# Altium footprint library IPC-7355 QFP_Sq_65P_Side_L.PcbLib: 7 footprints
Each footprint in its own frame and in the unit in brackets; x right, y up, seen from the top. Pads: shape width x height; smd on the part's side, far side on the other; paste and mask are expansions set on the pad; w line width, h text height; cw(c..) or ccw(c..) is an arc to the next point about the centre after c.
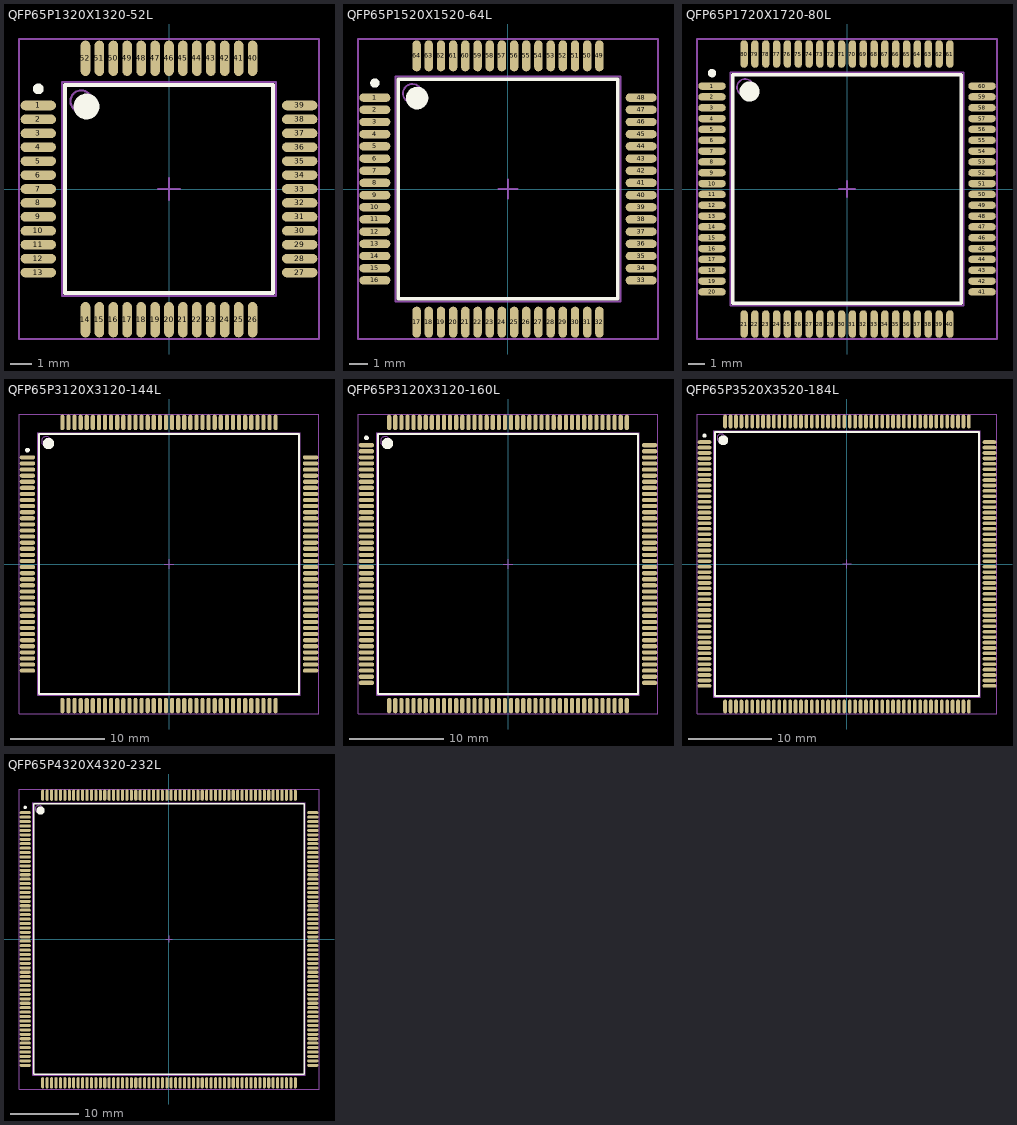
[diagram p0: the footprints below, top view; thin cyan lines are the x and y axes]

## QFP65P1320X1320-52L [mm] "QFP, 52-Leads, Body 10 x 10 mm, Pitch 0.65mm, IPC High Density"
height 2.45
pads (52):
  oval 1.65x0.45 smd: 1(-6.1,3.9) 2(-6.1,3.25) 3(-6.1,2.6) 4(-6.1,1.95) 5(-6.1,1.3) 6(-6.1,0.65) 7(-6.1,0) 8(-6.1,-0.65) 9(-6.1,-1.3) 10(-6.1,-1.95) 11(-6.1,-2.6) 12(-6.1,-3.25) 13(-6.1,-3.9) 27(6.1,-3.9) 28(6.1,-3.25) 29(6.1,-2.6) 30(6.1,-1.95) 31(6.1,-1.3) 32(6.1,-0.65) 33(6.1,0) 34(6.1,0.65) 35(6.1,1.3) 36(6.1,1.95) 37(6.1,2.6) 38(6.1,3.25) 39(6.1,3.9)
  oval 0.45x1.65 smd: 14(-3.9,-6.1) 15(-3.25,-6.1) 16(-2.6,-6.1) 17(-1.95,-6.1) 18(-1.3,-6.1) 19(-0.65,-6.1) 20(0,-6.1) 21(0.65,-6.1) 22(1.3,-6.1) 23(1.95,-6.1) 24(2.6,-6.1) 25(3.25,-6.1) 26(3.9,-6.1) 40(3.9,6.1) 41(3.25,6.1) 42(2.6,6.1) 43(1.95,6.1) 44(1.3,6.1) 45(0.65,6.1) 46(0,6.1) 47(-0.65,6.1) 48(-1.3,6.1) 49(-1.95,6.1) 50(-2.6,6.1) 51(-3.25,6.1) 52(-3.9,6.1)
Top Overlay:
  circle w0.6: c-3.85,3.85 r0.3
  circle w0.25: c-6.1,4.675 r0.125
  lines w0.2: -4.85,-4.85 4.85,-4.85 4.85,4.85 -4.85,4.85 -4.85,-4.85
Mechanical 13:
  circle w0.1: c-4.1,4.1 r0.5
  lines w0.1: -5,-5 5,-5 5,5 -5,5 -5,-5
Mechanical 15:
  lines w0.1: -0.5,0 0.5,0 ; 0,-0.5 0,0.5 ; -7,-7 7,-7 7,7 -7,7 -7,-7
3D body: height 2.45, standoff 0, extent -5,-5 5,5

## QFP65P1520X1520-64L [mm] "QFP, 64-Leads, Body 12 x 12 mm, Pitch 0.65mm, IPC High Density"
height 2.45
pads (64):
  oval 1.65x0.45 smd: 1(-7.1,4.875) 2(-7.1,4.225) 3(-7.1,3.575) 4(-7.1,2.925) 5(-7.1,2.275) 6(-7.1,1.625) 7(-7.1,0.975) 8(-7.1,0.325) 9(-7.1,-0.325) 10(-7.1,-0.975) 11(-7.1,-1.625) 12(-7.1,-2.275) 13(-7.1,-2.925) 14(-7.1,-3.575) 15(-7.1,-4.225) 16(-7.1,-4.875) 33(7.1,-4.875) 34(7.1,-4.225) 35(7.1,-3.575) 36(7.1,-2.925) 37(7.1,-2.275) 38(7.1,-1.625) 39(7.1,-0.975) 40(7.1,-0.325) 41(7.1,0.325) 42(7.1,0.975) 43(7.1,1.625) 44(7.1,2.275) 45(7.1,2.925) 46(7.1,3.575) 47(7.1,4.225) 48(7.1,4.875)
  oval 0.45x1.65 smd: 17(-4.875,-7.1) 18(-4.225,-7.1) 19(-3.575,-7.1) 20(-2.925,-7.1) 21(-2.275,-7.1) 22(-1.625,-7.1) 23(-0.975,-7.1) 24(-0.325,-7.1) 25(0.325,-7.1) 26(0.975,-7.1) 27(1.625,-7.1) 28(2.275,-7.1) 29(2.925,-7.1) 30(3.575,-7.1) 31(4.225,-7.1) 32(4.875,-7.1) 49(4.875,7.1) 50(4.225,7.1) 51(3.575,7.1) 52(2.925,7.1) 53(2.275,7.1) 54(1.625,7.1) 55(0.975,7.1) 56(0.325,7.1) 57(-0.325,7.1) 58(-0.975,7.1) 59(-1.625,7.1) 60(-2.275,7.1) 61(-2.925,7.1) 62(-3.575,7.1) 63(-4.225,7.1) 64(-4.875,7.1)
Top Overlay:
  circle w0.6: c-4.85,4.85 r0.3
  circle w0.25: c-7.1,5.65 r0.125
  lines w0.2: -5.85,-5.85 5.85,-5.85 5.85,5.85 -5.85,5.85 -5.85,-5.85
Mechanical 13:
  circle w0.1: c-5.1,5.1 r0.5
  lines w0.1: -6,-6 6,-6 6,6 -6,6 -6,-6
Mechanical 15:
  lines w0.1: -0.5,0 0.5,0 ; 0,-0.5 0,0.5 ; -8,-8 8,-8 8,8 -8,8 -8,-8
3D body: height 2.45, standoff 0, extent -6,-6 6,6

## QFP65P1720X1720-80L [mm] "QFP, 80-Leads, Body 14 x 14 mm, Pitch 0.65mm, IPC High Density"
height 2.45
pads (80):
  oval 1.65x0.45 smd: 1(-8.1,6.175) 2(-8.1,5.525) 3(-8.1,4.875) 4(-8.1,4.225) 5(-8.1,3.575) 6(-8.1,2.925) 7(-8.1,2.275) 8(-8.1,1.625) 9(-8.1,0.975) 10(-8.1,0.325) 11(-8.1,-0.325) 12(-8.1,-0.975) 13(-8.1,-1.625) 14(-8.1,-2.275) 15(-8.1,-2.925) 16(-8.1,-3.575) 17(-8.1,-4.225) 18(-8.1,-4.875) 19(-8.1,-5.525) 20(-8.1,-6.175) 41(8.1,-6.175) 42(8.1,-5.525) 43(8.1,-4.875) 44(8.1,-4.225) 45(8.1,-3.575) 46(8.1,-2.925) 47(8.1,-2.275) 48(8.1,-1.625) 49(8.1,-0.975) 50(8.1,-0.325) 51(8.1,0.325) 52(8.1,0.975) 53(8.1,1.625) 54(8.1,2.275) 55(8.1,2.925) 56(8.1,3.575) 57(8.1,4.225) 58(8.1,4.875) 59(8.1,5.525) 60(8.1,6.175)
  oval 0.45x1.65 smd: 21(-6.175,-8.1) 22(-5.525,-8.1) 23(-4.875,-8.1) 24(-4.225,-8.1) 25(-3.575,-8.1) 26(-2.925,-8.1) 27(-2.275,-8.1) 28(-1.625,-8.1) 29(-0.975,-8.1) 30(-0.325,-8.1) 31(0.325,-8.1) 32(0.975,-8.1) 33(1.625,-8.1) 34(2.275,-8.1) 35(2.925,-8.1) 36(3.575,-8.1) 37(4.225,-8.1) 38(4.875,-8.1) 39(5.525,-8.1) 40(6.175,-8.1) 61(6.175,8.1) 62(5.525,8.1) 63(4.875,8.1) 64(4.225,8.1) 65(3.575,8.1) 66(2.925,8.1) 67(2.275,8.1) 68(1.625,8.1) 69(0.975,8.1) 70(0.325,8.1) 71(-0.325,8.1) 72(-0.975,8.1) 73(-1.625,8.1) 74(-2.275,8.1) 75(-2.925,8.1) 76(-3.575,8.1) 77(-4.225,8.1) 78(-4.875,8.1) 79(-5.525,8.1) 80(-6.175,8.1)
Top Overlay:
  circle w0.6: c-5.85,5.85 r0.3
  circle w0.25: c-8.1,6.95 r0.125
  lines w0.2: -6.85,-6.85 6.85,-6.85 6.85,6.85 -6.85,6.85 -6.85,-6.85
Mechanical 13:
  circle w0.1: c-6.1,6.1 r0.5
  lines w0.1: -7,-7 7,-7 7,7 -7,7 -7,-7
Mechanical 15:
  lines w0.1: -0.5,0 0.5,0 ; 0,-0.5 0,0.5 ; -9,-9 9,-9 9,9 -9,9 -9,-9
3D body: height 2.45, standoff 0, extent -7,-7 7,7

## QFP65P3120X3120-144L [mm] "QFP, 144-Leads, Body 28 x 28 mm, Pitch 0.65mm, IPC High Density"
height 3.75
pads (144):
  oval 1.65x0.45 smd: 1(-15.1,11.375) 2(-15.1,10.725) 3(-15.1,10.075) 4(-15.1,9.425) 5(-15.1,8.775) 6(-15.1,8.125) 7(-15.1,7.475) 8(-15.1,6.825) 9(-15.1,6.175) 10(-15.1,5.525) 11(-15.1,4.875) 12(-15.1,4.225) 13(-15.1,3.575) 14(-15.1,2.925) 15(-15.1,2.275) 16(-15.1,1.625) 17(-15.1,0.975) 18(-15.1,0.325) 19(-15.1,-0.325) 20(-15.1,-0.975) 21(-15.1,-1.625) 22(-15.1,-2.275) 23(-15.1,-2.925) 24(-15.1,-3.575) 25(-15.1,-4.225) 26(-15.1,-4.875) 27(-15.1,-5.525) 28(-15.1,-6.175) 29(-15.1,-6.825) 30(-15.1,-7.475) 31(-15.1,-8.125) 32(-15.1,-8.775) 33(-15.1,-9.425) 34(-15.1,-10.075) 35(-15.1,-10.725) 36(-15.1,-11.375) 73(15.1,-11.375) 74(15.1,-10.725) 75(15.1,-10.075) 76(15.1,-9.425) 77(15.1,-8.775) 78(15.1,-8.125) 79(15.1,-7.475) 80(15.1,-6.825) 81(15.1,-6.175) 82(15.1,-5.525) 83(15.1,-4.875) 84(15.1,-4.225) 85(15.1,-3.575) 86(15.1,-2.925) 87(15.1,-2.275) 88(15.1,-1.625) 89(15.1,-0.975) 90(15.1,-0.325) 91(15.1,0.325) 92(15.1,0.975) 93(15.1,1.625) 94(15.1,2.275) 95(15.1,2.925) 96(15.1,3.575) 97(15.1,4.225) 98(15.1,4.875) 99(15.1,5.525) 100(15.1,6.175) 101(15.1,6.825) 102(15.1,7.475) 103(15.1,8.125) 104(15.1,8.775) 105(15.1,9.425) 106(15.1,10.075) 107(15.1,10.725) 108(15.1,11.375)
  oval 0.45x1.65 smd: 37(-11.375,-15.1) 38(-10.725,-15.1) 39(-10.075,-15.1) 40(-9.425,-15.1) 41(-8.775,-15.1) 42(-8.125,-15.1) 43(-7.475,-15.1) 44(-6.825,-15.1) 45(-6.175,-15.1) 46(-5.525,-15.1) 47(-4.875,-15.1) 48(-4.225,-15.1) 49(-3.575,-15.1) 50(-2.925,-15.1) 51(-2.275,-15.1) 52(-1.625,-15.1) 53(-0.975,-15.1) 54(-0.325,-15.1) 55(0.325,-15.1) 56(0.975,-15.1) 57(1.625,-15.1) 58(2.275,-15.1) 59(2.925,-15.1) 60(3.575,-15.1) 61(4.225,-15.1) 62(4.875,-15.1) 63(5.525,-15.1) 64(6.175,-15.1) 65(6.825,-15.1) 66(7.475,-15.1) 67(8.125,-15.1) 68(8.775,-15.1) 69(9.425,-15.1) 70(10.075,-15.1) 71(10.725,-15.1) 72(11.375,-15.1) 109(11.375,15.1) 110(10.725,15.1) 111(10.075,15.1) 112(9.425,15.1) 113(8.775,15.1) 114(8.125,15.1) 115(7.475,15.1) 116(6.825,15.1) 117(6.175,15.1) 118(5.525,15.1) 119(4.875,15.1) 120(4.225,15.1) 121(3.575,15.1) 122(2.925,15.1) 123(2.275,15.1) 124(1.625,15.1) 125(0.975,15.1) 126(0.325,15.1) 127(-0.325,15.1) 128(-0.975,15.1) 129(-1.625,15.1) 130(-2.275,15.1) 131(-2.925,15.1) 132(-3.575,15.1) 133(-4.225,15.1) 134(-4.875,15.1) 135(-5.525,15.1) 136(-6.175,15.1) 137(-6.825,15.1) 138(-7.475,15.1) 139(-8.125,15.1) 140(-8.775,15.1) 141(-9.425,15.1) 142(-10.075,15.1) 143(-10.725,15.1) 144(-11.375,15.1)
Top Overlay:
  circle w0.6: c-12.85,12.85 r0.3
  circle w0.25: c-15.1,12.15 r0.125
  lines w0.2: -13.85,-13.85 13.85,-13.85 13.85,13.85 -13.85,13.85 -13.85,-13.85
Mechanical 13:
  circle w0.1: c-13.1,13.1 r0.5
  lines w0.1: -14,-14 14,-14 14,14 -14,14 -14,-14
Mechanical 15:
  lines w0.1: -0.5,0 0.5,0 ; 0,-0.5 0,0.5 ; -16,-16 16,-16 16,16 -16,16 -16,-16
3D body: height 3.75, standoff 0, extent -14,-14 14,14

## QFP65P3120X3120-160L [mm] "QFP, 160-Leads, Body 28 x 28 mm, Pitch 0.65mm, IPC High Density"
height 3.75
pads (160):
  oval 1.65x0.45 smd: 1(-15.1,12.675) 2(-15.1,12.025) 3(-15.1,11.375) 4(-15.1,10.725) 5(-15.1,10.075) 6(-15.1,9.425) 7(-15.1,8.775) 8(-15.1,8.125) 9(-15.1,7.475) 10(-15.1,6.825) 11(-15.1,6.175) 12(-15.1,5.525) 13(-15.1,4.875) 14(-15.1,4.225) 15(-15.1,3.575) 16(-15.1,2.925) 17(-15.1,2.275) 18(-15.1,1.625) 19(-15.1,0.975) 20(-15.1,0.325) 21(-15.1,-0.325) 22(-15.1,-0.975) 23(-15.1,-1.625) 24(-15.1,-2.275) 25(-15.1,-2.925) 26(-15.1,-3.575) 27(-15.1,-4.225) 28(-15.1,-4.875) 29(-15.1,-5.525) 30(-15.1,-6.175) 31(-15.1,-6.825) 32(-15.1,-7.475) 33(-15.1,-8.125) 34(-15.1,-8.775) 35(-15.1,-9.425) 36(-15.1,-10.075) 37(-15.1,-10.725) 38(-15.1,-11.375) 39(-15.1,-12.025) 40(-15.1,-12.675) 81(15.1,-12.675) 82(15.1,-12.025) 83(15.1,-11.375) 84(15.1,-10.725) 85(15.1,-10.075) 86(15.1,-9.425) 87(15.1,-8.775) 88(15.1,-8.125) 89(15.1,-7.475) 90(15.1,-6.825) 91(15.1,-6.175) 92(15.1,-5.525) 93(15.1,-4.875) 94(15.1,-4.225) 95(15.1,-3.575) 96(15.1,-2.925) 97(15.1,-2.275) 98(15.1,-1.625) 99(15.1,-0.975) 100(15.1,-0.325) 101(15.1,0.325) 102(15.1,0.975) 103(15.1,1.625) 104(15.1,2.275) 105(15.1,2.925) 106(15.1,3.575) 107(15.1,4.225) 108(15.1,4.875) 109(15.1,5.525) 110(15.1,6.175) 111(15.1,6.825) 112(15.1,7.475) 113(15.1,8.125) 114(15.1,8.775) 115(15.1,9.425) 116(15.1,10.075) 117(15.1,10.725) 118(15.1,11.375) 119(15.1,12.025) 120(15.1,12.675)
  oval 0.45x1.65 smd: 41(-12.675,-15.1) 42(-12.025,-15.1) 43(-11.375,-15.1) 44(-10.725,-15.1) 45(-10.075,-15.1) 46(-9.425,-15.1) 47(-8.775,-15.1) 48(-8.125,-15.1) 49(-7.475,-15.1) 50(-6.825,-15.1) 51(-6.175,-15.1) 52(-5.525,-15.1) 53(-4.875,-15.1) 54(-4.225,-15.1) 55(-3.575,-15.1) 56(-2.925,-15.1) 57(-2.275,-15.1) 58(-1.625,-15.1) 59(-0.975,-15.1) 60(-0.325,-15.1) 61(0.325,-15.1) 62(0.975,-15.1) 63(1.625,-15.1) 64(2.275,-15.1) 65(2.925,-15.1) 66(3.575,-15.1) 67(4.225,-15.1) 68(4.875,-15.1) 69(5.525,-15.1) 70(6.175,-15.1) 71(6.825,-15.1) 72(7.475,-15.1) 73(8.125,-15.1) 74(8.775,-15.1) 75(9.425,-15.1) 76(10.075,-15.1) 77(10.725,-15.1) 78(11.375,-15.1) 79(12.025,-15.1) 80(12.675,-15.1) 121(12.675,15.1) 122(12.025,15.1) 123(11.375,15.1) 124(10.725,15.1) 125(10.075,15.1) 126(9.425,15.1) 127(8.775,15.1) 128(8.125,15.1) 129(7.475,15.1) 130(6.825,15.1) 131(6.175,15.1) 132(5.525,15.1) 133(4.875,15.1) 134(4.225,15.1) 135(3.575,15.1) 136(2.925,15.1) 137(2.275,15.1) 138(1.625,15.1) 139(0.975,15.1) 140(0.325,15.1) 141(-0.325,15.1) 142(-0.975,15.1) 143(-1.625,15.1) 144(-2.275,15.1) 145(-2.925,15.1) 146(-3.575,15.1) 147(-4.225,15.1) 148(-4.875,15.1) 149(-5.525,15.1) 150(-6.175,15.1) 151(-6.825,15.1) 152(-7.475,15.1) 153(-8.125,15.1) 154(-8.775,15.1) 155(-9.425,15.1) 156(-10.075,15.1) 157(-10.725,15.1) 158(-11.375,15.1) 159(-12.025,15.1) 160(-12.675,15.1)
Top Overlay:
  circle w0.6: c-12.85,12.85 r0.3
  circle w0.25: c-15.1,13.45 r0.125
  lines w0.2: -13.85,-13.85 13.85,-13.85 13.85,13.85 -13.85,13.85 -13.85,-13.85
Mechanical 13:
  circle w0.1: c-13.1,13.1 r0.5
  lines w0.1: -14,-14 14,-14 14,14 -14,14 -14,-14
Mechanical 15:
  lines w0.1: -0.5,0 0.5,0 ; 0,-0.5 0,0.5 ; -16,-16 16,-16 16,16 -16,16 -16,-16
3D body: height 3.75, standoff 0, extent -14,-14 14,14

## QFP65P3520X3520-184L [mm] "QFP, 184-Leads, Body 32 x 32 mm, Pitch 0.65mm, IPC High Density"
height 4.2
pads (184):
  oval 1.65x0.45 smd: 1(-17.1,14.625) 2(-17.1,13.975) 3(-17.1,13.325) 4(-17.1,12.675) 5(-17.1,12.025) 6(-17.1,11.375) 7(-17.1,10.725) 8(-17.1,10.075) 9(-17.1,9.425) 10(-17.1,8.775) 11(-17.1,8.125) 12(-17.1,7.475) 13(-17.1,6.825) 14(-17.1,6.175) 15(-17.1,5.525) 16(-17.1,4.875) 17(-17.1,4.225) 18(-17.1,3.575) 19(-17.1,2.925) 20(-17.1,2.275) 21(-17.1,1.625) 22(-17.1,0.975) 23(-17.1,0.325) 24(-17.1,-0.325) 25(-17.1,-0.975) 26(-17.1,-1.625) 27(-17.1,-2.275) 28(-17.1,-2.925) 29(-17.1,-3.575) 30(-17.1,-4.225) 31(-17.1,-4.875) 32(-17.1,-5.525) 33(-17.1,-6.175) 34(-17.1,-6.825) 35(-17.1,-7.475) 36(-17.1,-8.125) 37(-17.1,-8.775) 38(-17.1,-9.425) 39(-17.1,-10.075) 40(-17.1,-10.725) 41(-17.1,-11.375) 42(-17.1,-12.025) 43(-17.1,-12.675) 44(-17.1,-13.325) 45(-17.1,-13.975) 46(-17.1,-14.625) 93(17.1,-14.625) 94(17.1,-13.975) 95(17.1,-13.325) 96(17.1,-12.675) 97(17.1,-12.025) 98(17.1,-11.375) 99(17.1,-10.725) 100(17.1,-10.075) 101(17.1,-9.425) 102(17.1,-8.775) 103(17.1,-8.125) 104(17.1,-7.475) 105(17.1,-6.825) 106(17.1,-6.175) 107(17.1,-5.525) 108(17.1,-4.875) 109(17.1,-4.225) 110(17.1,-3.575) 111(17.1,-2.925) 112(17.1,-2.275) 113(17.1,-1.625) 114(17.1,-0.975) 115(17.1,-0.325) 116(17.1,0.325) 117(17.1,0.975) 118(17.1,1.625) 119(17.1,2.275) 120(17.1,2.925) 121(17.1,3.575) 122(17.1,4.225) 123(17.1,4.875) 124(17.1,5.525) 125(17.1,6.175) 126(17.1,6.825) 127(17.1,7.475) 128(17.1,8.125) 129(17.1,8.775) 130(17.1,9.425) 131(17.1,10.075) 132(17.1,10.725) 133(17.1,11.375) 134(17.1,12.025) 135(17.1,12.675) 136(17.1,13.325) 137(17.1,13.975) 138(17.1,14.625)
  oval 0.45x1.65 smd: 47(-14.625,-17.1) 48(-13.975,-17.1) 49(-13.325,-17.1) 50(-12.675,-17.1) 51(-12.025,-17.1) 52(-11.375,-17.1) 53(-10.725,-17.1) 54(-10.075,-17.1) 55(-9.425,-17.1) 56(-8.775,-17.1) 57(-8.125,-17.1) 58(-7.475,-17.1) 59(-6.825,-17.1) 60(-6.175,-17.1) 61(-5.525,-17.1) 62(-4.875,-17.1) 63(-4.225,-17.1) 64(-3.575,-17.1) 65(-2.925,-17.1) 66(-2.275,-17.1) 67(-1.625,-17.1) 68(-0.975,-17.1) 69(-0.325,-17.1) 70(0.325,-17.1) 71(0.975,-17.1) 72(1.625,-17.1) 73(2.275,-17.1) 74(2.925,-17.1) 75(3.575,-17.1) 76(4.225,-17.1) 77(4.875,-17.1) 78(5.525,-17.1) 79(6.175,-17.1) 80(6.825,-17.1) 81(7.475,-17.1) 82(8.125,-17.1) 83(8.775,-17.1) 84(9.425,-17.1) 85(10.075,-17.1) 86(10.725,-17.1) 87(11.375,-17.1) 88(12.025,-17.1) 89(12.675,-17.1) 90(13.325,-17.1) 91(13.975,-17.1) 92(14.625,-17.1) 139(14.625,17.1) 140(13.975,17.1) 141(13.325,17.1) 142(12.675,17.1) 143(12.025,17.1) 144(11.375,17.1) 145(10.725,17.1) 146(10.075,17.1) 147(9.425,17.1) 148(8.775,17.1) 149(8.125,17.1) 150(7.475,17.1) 151(6.825,17.1) 152(6.175,17.1) 153(5.525,17.1) 154(4.875,17.1) 155(4.225,17.1) 156(3.575,17.1) 157(2.925,17.1) 158(2.275,17.1) 159(1.625,17.1) 160(0.975,17.1) 161(0.325,17.1) 162(-0.325,17.1) 163(-0.975,17.1) 164(-1.625,17.1) 165(-2.275,17.1) 166(-2.925,17.1) 167(-3.575,17.1) 168(-4.225,17.1) 169(-4.875,17.1) 170(-5.525,17.1) 171(-6.175,17.1) 172(-6.825,17.1) 173(-7.475,17.1) 174(-8.125,17.1) 175(-8.775,17.1) 176(-9.425,17.1) 177(-10.075,17.1) 178(-10.725,17.1) 179(-11.375,17.1) 180(-12.025,17.1) 181(-12.675,17.1) 182(-13.325,17.1) 183(-13.975,17.1) 184(-14.625,17.1)
Top Overlay:
  circle w0.6: c-14.85,14.85 r0.3
  circle w0.25: c-17.1,15.4 r0.125
  lines w0.2: -15.85,-15.85 15.85,-15.85 15.85,15.85 -15.85,15.85 -15.85,-15.85
Mechanical 13:
  circle w0.1: c-15.1,15.1 r0.5
  lines w0.1: -16,-16 16,-16 16,16 -16,16 -16,-16
Mechanical 15:
  lines w0.1: -0.5,0 0.5,0 ; 0,-0.5 0,0.5 ; -18,-18 18,-18 18,18 -18,18 -18,-18
3D body: height 4.2, standoff 0, extent -16,-16 16,16

## QFP65P4320X4320-232L [mm] "QFP, 232-Leads, Body 40 x 40 mm, Pitch 0.65mm, IPC High Density"
height 4.2
pads (232):
  oval 1.65x0.45 smd: 1(-21.1,18.525) 2(-21.1,17.875) 3(-21.1,17.225) 4(-21.1,16.575) 5(-21.1,15.925) 6(-21.1,15.275) 7(-21.1,14.625) 8(-21.1,13.975) 9(-21.1,13.325) 10(-21.1,12.675) 11(-21.1,12.025) 12(-21.1,11.375) 13(-21.1,10.725) 14(-21.1,10.075) 15(-21.1,9.425) 16(-21.1,8.775) 17(-21.1,8.125) 18(-21.1,7.475) 19(-21.1,6.825) 20(-21.1,6.175) 21(-21.1,5.525) 22(-21.1,4.875) 23(-21.1,4.225) 24(-21.1,3.575) 25(-21.1,2.925) 26(-21.1,2.275) 27(-21.1,1.625) 28(-21.1,0.975) 29(-21.1,0.325) 30(-21.1,-0.325) 31(-21.1,-0.975) 32(-21.1,-1.625) 33(-21.1,-2.275) 34(-21.1,-2.925) 35(-21.1,-3.575) 36(-21.1,-4.225) 37(-21.1,-4.875) 38(-21.1,-5.525) 39(-21.1,-6.175) 40(-21.1,-6.825) 41(-21.1,-7.475) 42(-21.1,-8.125) 43(-21.1,-8.775) 44(-21.1,-9.425) 45(-21.1,-10.075) 46(-21.1,-10.725) 47(-21.1,-11.375) 48(-21.1,-12.025) 49(-21.1,-12.675) 50(-21.1,-13.325) 51(-21.1,-13.975) 52(-21.1,-14.625) 53(-21.1,-15.275) 54(-21.1,-15.925) 55(-21.1,-16.575) 56(-21.1,-17.225) 57(-21.1,-17.875) 58(-21.1,-18.525) 117(21.1,-18.525) 118(21.1,-17.875) 119(21.1,-17.225) 120(21.1,-16.575) 121(21.1,-15.925) 122(21.1,-15.275) 123(21.1,-14.625) 124(21.1,-13.975) 125(21.1,-13.325) 126(21.1,-12.675) 127(21.1,-12.025) 128(21.1,-11.375) 129(21.1,-10.725) 130(21.1,-10.075) 131(21.1,-9.425) 132(21.1,-8.775) 133(21.1,-8.125) 134(21.1,-7.475) 135(21.1,-6.825) 136(21.1,-6.175) 137(21.1,-5.525) 138(21.1,-4.875) 139(21.1,-4.225) 140(21.1,-3.575) 141(21.1,-2.925) 142(21.1,-2.275) 143(21.1,-1.625) 144(21.1,-0.975) 145(21.1,-0.325) 146(21.1,0.325) 147(21.1,0.975) 148(21.1,1.625) 149(21.1,2.275) 150(21.1,2.925) 151(21.1,3.575) 152(21.1,4.225) 153(21.1,4.875) 154(21.1,5.525) 155(21.1,6.175) 156(21.1,6.825) 157(21.1,7.475) 158(21.1,8.125) 159(21.1,8.775) 160(21.1,9.425) 161(21.1,10.075) 162(21.1,10.725) 163(21.1,11.375) 164(21.1,12.025) 165(21.1,12.675) 166(21.1,13.325) 167(21.1,13.975) 168(21.1,14.625) 169(21.1,15.275) 170(21.1,15.925) 171(21.1,16.575) 172(21.1,17.225) 173(21.1,17.875) 174(21.1,18.525)
  oval 0.45x1.65 smd: 59(-18.525,-21.1) 60(-17.875,-21.1) 61(-17.225,-21.1) 62(-16.575,-21.1) 63(-15.925,-21.1) 64(-15.275,-21.1) 65(-14.625,-21.1) 66(-13.975,-21.1) 67(-13.325,-21.1) 68(-12.675,-21.1) 69(-12.025,-21.1) 70(-11.375,-21.1) 71(-10.725,-21.1) 72(-10.075,-21.1) 73(-9.425,-21.1) 74(-8.775,-21.1) 75(-8.125,-21.1) 76(-7.475,-21.1) 77(-6.825,-21.1) 78(-6.175,-21.1) 79(-5.525,-21.1) 80(-4.875,-21.1) 81(-4.225,-21.1) 82(-3.575,-21.1) 83(-2.925,-21.1) 84(-2.275,-21.1) 85(-1.625,-21.1) 86(-0.975,-21.1) 87(-0.325,-21.1) 88(0.325,-21.1) 89(0.975,-21.1) 90(1.625,-21.1) 91(2.275,-21.1) 92(2.925,-21.1) 93(3.575,-21.1) 94(4.225,-21.1) 95(4.875,-21.1) 96(5.525,-21.1) 97(6.175,-21.1) 98(6.825,-21.1) 99(7.475,-21.1) 100(8.125,-21.1) 101(8.775,-21.1) 102(9.425,-21.1) 103(10.075,-21.1) 104(10.725,-21.1) 105(11.375,-21.1) 106(12.025,-21.1) 107(12.675,-21.1) 108(13.325,-21.1) 109(13.975,-21.1) 110(14.625,-21.1) 111(15.275,-21.1) 112(15.925,-21.1) 113(16.575,-21.1) 114(17.225,-21.1) 115(17.875,-21.1) 116(18.525,-21.1) 175(18.525,21.1) 176(17.875,21.1) 177(17.225,21.1) 178(16.575,21.1) 179(15.925,21.1) 180(15.275,21.1) 181(14.625,21.1) 182(13.975,21.1) 183(13.325,21.1) 184(12.675,21.1) 185(12.025,21.1) 186(11.375,21.1) 187(10.725,21.1) 188(10.075,21.1) 189(9.425,21.1) 190(8.775,21.1) 191(8.125,21.1) 192(7.475,21.1) 193(6.825,21.1) 194(6.175,21.1) 195(5.525,21.1) 196(4.875,21.1) 197(4.225,21.1) 198(3.575,21.1) 199(2.925,21.1) 200(2.275,21.1) 201(1.625,21.1) 202(0.975,21.1) 203(0.325,21.1) 204(-0.325,21.1) 205(-0.975,21.1) 206(-1.625,21.1) 207(-2.275,21.1) 208(-2.925,21.1) 209(-3.575,21.1) 210(-4.225,21.1) 211(-4.875,21.1) 212(-5.525,21.1) 213(-6.175,21.1) 214(-6.825,21.1) 215(-7.475,21.1) 216(-8.125,21.1) 217(-8.775,21.1) 218(-9.425,21.1) 219(-10.075,21.1) 220(-10.725,21.1) 221(-11.375,21.1) 222(-12.025,21.1) 223(-12.675,21.1) 224(-13.325,21.1) 225(-13.975,21.1) 226(-14.625,21.1) 227(-15.275,21.1) 228(-15.925,21.1) 229(-16.575,21.1) 230(-17.225,21.1) 231(-17.875,21.1) 232(-18.525,21.1)
Top Overlay:
  circle w0.6: c-18.85,18.85 r0.3
  circle w0.25: c-21.1,19.3 r0.125
  lines w0.2: -19.85,-19.85 19.85,-19.85 19.85,19.85 -19.85,19.85 -19.85,-19.85
Mechanical 13:
  circle w0.1: c-19.1,19.1 r0.5
  lines w0.1: -20,-20 20,-20 20,20 -20,20 -20,-20
Mechanical 15:
  lines w0.1: -0.5,0 0.5,0 ; 0,-0.5 0,0.5 ; -22,-22 22,-22 22,22 -22,22 -22,-22
3D body: height 4.2, standoff 0, extent -20,-20 20,20